# Altium schematic symbol library Antenna.SchLib: 2 symbols
Pins are listed as number, name and electrical type; pins without a type are passive.

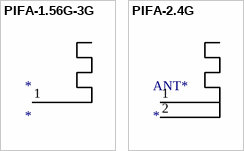
[diagram p0: symbols PIFA-1.56G-3G to PIFA-2.4G]

## PIFA-1.56G-3G
designator *
footprint PIFA-1.56G-3.6G
pins: 1

## PIFA-2.4G
designator ANT*
footprint InvertF-2.4G (http://www.ti.com/lit/pdf/swra117)
pins: 1, 2